# Altium footprint library UVICHyrbidLibrary (1).PcbLib: 116 footprints (part 7 of 8)
Each footprint in its own frame and in the unit in brackets; x right, y up, seen from the top. Pads: shape width x height; smd on the part's side, far side on the other; paste and mask are expansions set on the pad; w line width, h text height; cw(c..) or ccw(c..) is an arc to the next point about the centre after c.
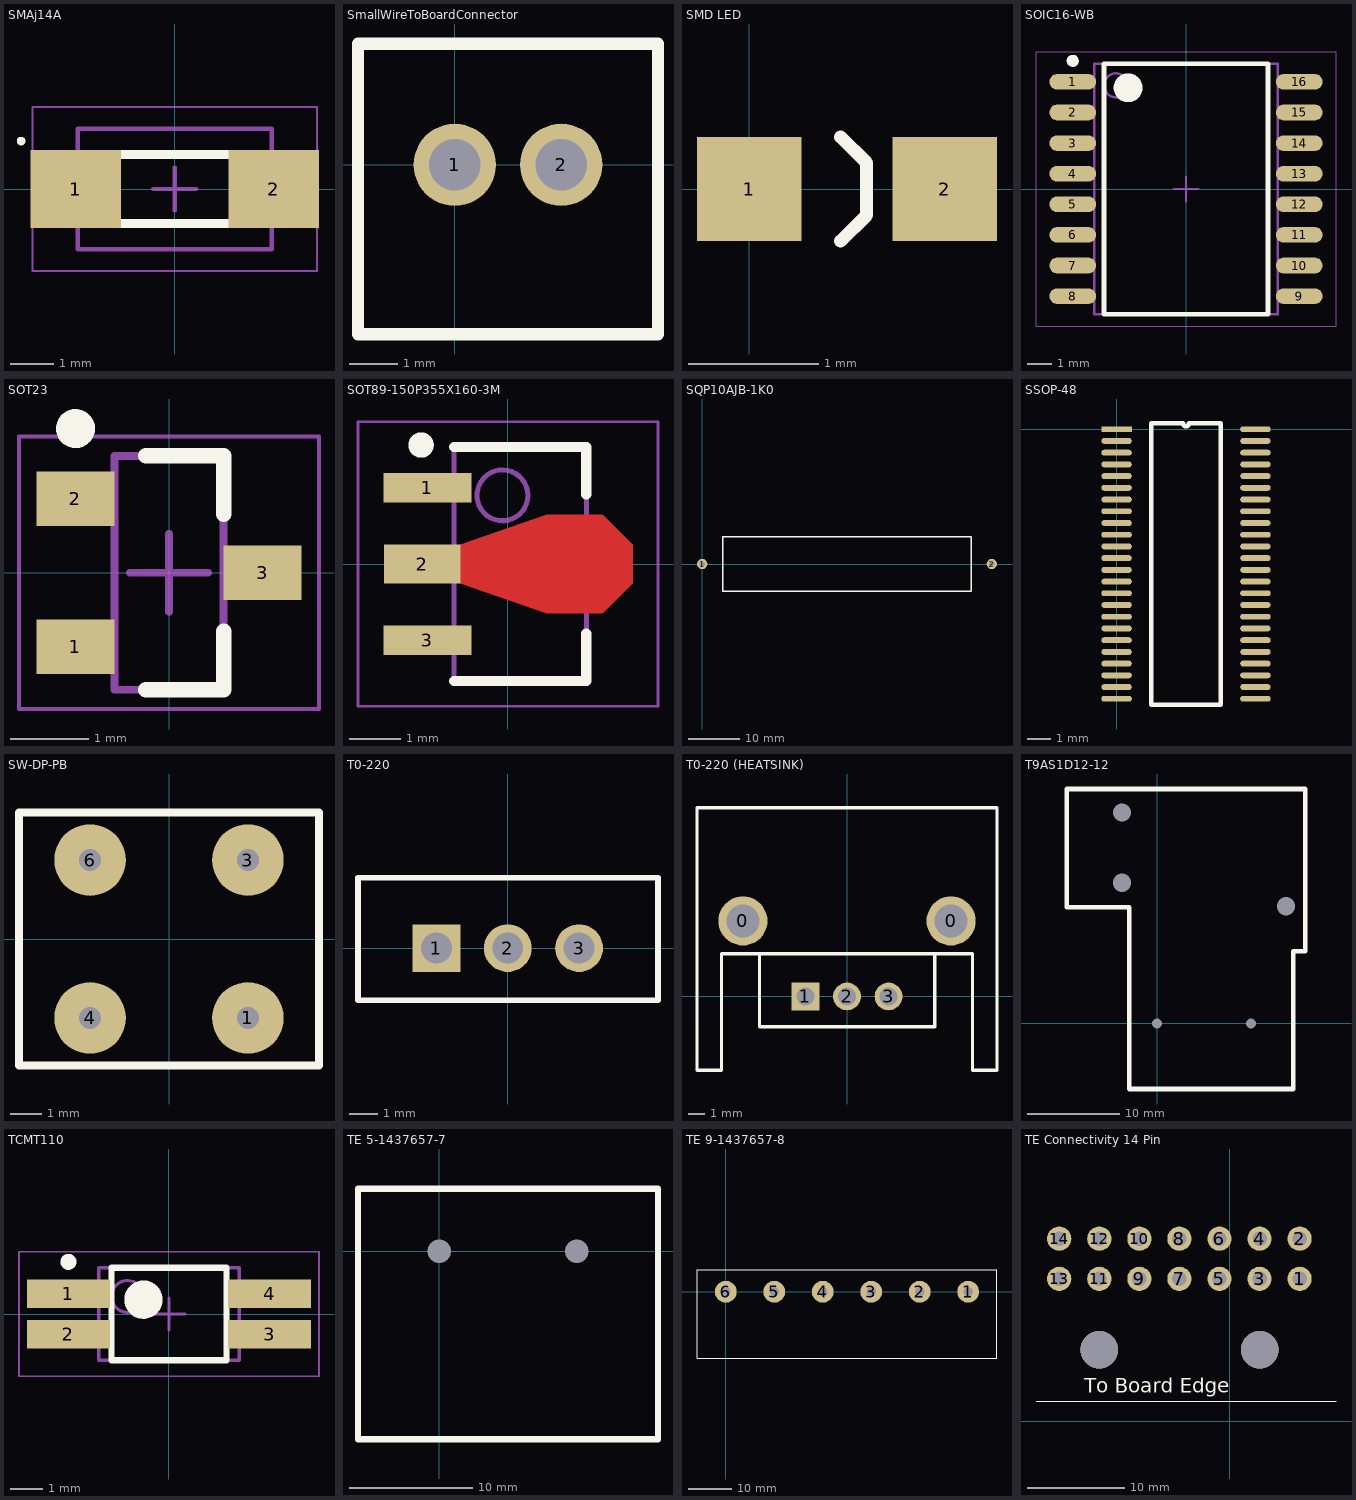
[diagram p6: the footprints below, top view; thin cyan lines are the x and y axes]

## SMAj14A [mm] "Little Fuse TVS Diode"
height 2.29
pads (2):
  rect 2.1x1.8 smd: 1(-2.3,0) 2(2.3,0)
Top Overlay:
  circle w0.1: c-3.562,1.112 r0.05
  lines w0.2: -1.3,-0.8 1.3,-0.8 ; -1.3,0.8 1.3,0.8
Mechanical 13:
  lines w0.1: -2.25,-1.395 2.25,-1.395 2.25,1.395 -2.25,1.395 -2.25,-1.395
Mechanical 15:
  lines w0.05: -3.3,-1.9 3.3,-1.9 3.3,1.9 -3.3,1.9 -3.3,-1.9
  lines w0.1: -0.5,0 0.5,0 ; 0,-0.5 0,0.5
3D body: height 2.29, standoff 0, extent 2.02,-1.395 2.25,1.395
3D body: height 2.29, standoff 0, extent -2.25,-1.395 -2.02,1.395
3D body: height 2.29, standoff 0, extent -2.02,-1.395 2.02,1.395

## SmallWireToBoardConnector [mm] "Extra Parts"
pads (2):
  round 1.7 hole 1.07: 1(0,0) 2(2.2,0)
Top Overlay:
  lines w0.254: -2,-3.5 -2,2.5 4.2,2.5 4.2,-3.5 -2,-3.5

## SMD LED [mm] "LTST LED"
pads (2):
  rect 0.8x0.8 smd: 1(0,0) 2(1.5,0)
Top Overlay:
  lines w0.1: 0.7,-0.4 0.9,-0.2 0.9,0.2 0.7,0.4

## SOIC16-WB [mm] "Wide Body 16 pin SOIC"
height 2.65
pads (16):
  oval 1.95x0.65 smd: 1(-4.7,4.445) 2(-4.7,3.175) 3(-4.7,1.905) 4(-4.7,0.635) 5(-4.7,-0.635) 6(-4.7,-1.905) 7(-4.7,-3.175) 8(-4.7,-4.445) 9(4.7,-4.445) 10(4.7,-3.175) 11(4.7,-1.905) 12(4.7,-0.635) 13(4.7,0.635) 14(4.7,1.905) 15(4.7,3.175) 16(4.7,4.445)
Top Overlay:
  circle w0.25: c-4.7,5.32 r0.125
  circle w0.6: c-2.4,4.2 r0.3
  lines w0.2: -3.4,-5.2 -3.4,5.2 3.4,5.2 3.4,-5.2 -3.4,-5.2
Mechanical 13:
  circle w0.1: c-2.9,4.3 r0.5
  lines w0.1: -3.8,-5.2 -3.8,5.2 3.8,5.2 3.8,-5.2 -3.8,-5.2
Mechanical 15:
  lines w0.05: -6.225,-5.7 -6.225,5.7 6.225,5.7 6.225,-5.7 -6.225,-5.7
  lines w0.1: -0.5,0 0.5,0 ; 0,-0.5 0,0.5
3D body: height 2.65, standoff 0.1, extent -3.8,-5.2 3.8,5.2

## SOT23 [mm] "SOT23, 3-Leads, Body 2.90x2.45mm, Pitch 0.95mm, IPC Medium Density"
height 1.1
pads (3):
  rect 1x0.7 smd: 1(-1.2,-0.95) 2(-1.2,0.95) 3(1.2,0)
Top Overlay:
  circle w0.25: c-1.2,1.85 r0.125
  lines w0.2: -0.3,-1.5 0.7,-1.5 0.7,-0.75 ; -0.3,1.5 0.7,1.5 0.7,0.75
Mechanical 13:
  lines w0.1: -0.7,-1.5 -0.7,1.5 0.7,1.5 0.7,-1.5 -0.7,-1.5
Mechanical 15:
  lines w0.05: -1.925,-1.75 -1.925,1.75 1.925,1.75 1.925,-1.75 -1.925,-1.75
  lines w0.1: -0.5,0 0.5,0 ; 0,-0.5 0,0.5
3D body: height 1.1, standoff 0.05, extent -0.7,-1.5 0.7,1.5

## SOT89-150P355X160-3M [mm] "SOT89, 3-Leads, Body 4.50x2.45mm, Pitch 1.50mm, Lead Span 3.5mm, IPC Low Density"
height 1.6
pads (3):
  rect 1.73x0.58 smd: 1(-1.585,1.5) 3(-1.585,-1.5)
  rect 1.5x0.76 smd: 2(-1.685,0)
Top Layer:
  region: -0.95,0.38 0.75,0.967 1.864,0.967 2.45,0.38 2.45,-0.38 1.864,-0.967 0.75,-0.967 -0.95,-0.38
Top Overlay:
  circle w0.25: c-1.71,2.34 r0.125
  lines w0.2: -1.06,-2.3 1.54,-2.3 1.54,-1.366 ; -1.06,2.3 1.54,2.3 1.54,1.366
Mechanical 13:
  circle w0.1: c-0.11,1.35 r0.5
  lines w0.1: -1.06,-2.3 -1.06,2.3 1.54,2.3 1.54,-2.3 -1.06,-2.3
Mechanical 15:
  lines w0.05: -2.95,-2.8 -2.95,2.8 2.95,2.8 2.95,-2.8 -2.95,-2.8
  lines w0.1: -0.26,0 0.74,0 ; 0.24,-0.5 0.24,0.5
3D body: height 1.6, standoff 0, extent -1.06,-2.3 1.54,2.3

## SQP10AJB-1K0 [mm] "Yageo Through-Hole 10W Resistor"
pads (2):
  round 2 hole 1: 1(0,0) 2(56,0)
Top Overlay:
  lines w0.254: 4,-5.25 4,5.25 52,5.25 52,-5.25 4,-5.25
3D body: height 15.2, standoff 0.1, extent 4,-5.25 52,5.25

## SSOP-48 [mm]
pads (48):
  rect 1.3x0.25 smd: 1(0,0)
  oval 1.3x0.25 smd: 2(0,-0.5) 3(0,-1) 4(0,-1.5) 5(0,-2) 6(0,-2.5) 7(0,-3) 8(0,-3.5) 9(0,-4) 10(0,-4.5) 11(0,-5) 12(0,-5.5) 13(0,-6) 14(0,-6.5) 15(0,-7) 16(0,-7.5) 17(0,-8) 18(0,-8.5) 19(0,-9) 20(0,-9.5) 21(0,-10) 22(0,-10.5) 23(0,-11) 24(0,-11.5) 25(5.925,-11.5) 26(5.925,-11) 27(5.925,-10.5) 28(5.925,-10) 29(5.925,-9.5) 30(5.925,-9) 31(5.925,-8.5) 32(5.925,-8) 33(5.925,-7.5) 34(5.925,-7) 35(5.925,-6.5) 36(5.925,-6) 37(5.925,-5.5) 38(5.925,-5) 39(5.925,-4.5) 40(5.925,-4) 41(5.925,-3.5) 42(5.925,-3) 43(5.925,-2.5) 44(5.925,-2) 45(5.925,-1.5) 46(5.925,-1) 47(5.925,-0.5) 48(5.925,0)
Top Overlay:
  lines w0.2: 1.485,-11.75 1.485,0.25 2.838,0.25 ccw(c2.962,0.25) 3.087,0.25 4.44,0.25 4.44,-11.75 1.485,-11.75

## SW-DP-PB [mm] "Double Pole Push Button for Reset Circuit"
pads (4):
  round 2.3 hole 0.711 square: 1(2.54,-2.54) 3(2.54,2.54) 4(-2.54,-2.54) 6(-2.54,2.54)
Top Overlay:
  lines w0.254: -4.826,-4.064 -4.826,4.064 4.826,4.064 4.826,-4.064 -4.826,-4.064

## T0-220 [mm]
pads (3):
  rect 1.7x1.7 hole 1.1: 1(-2.54,0)
  round 1.7 hole 1.1: 2(0,0) 3(2.54,0)
Top Overlay:
  lines w0.2: -5.334,-1.85 -5.334,2.5 5.35,2.5 5.35,-1.85 -5.334,-1.85

## T0-220 (HEATSINK) [mm] "Ohmite WV-T220-101E Heat Sink"
pads (5):
  round 3 hole 2 unplated: 0(-6.35,4.6)
  round 3 hole 2: 0(6.35,4.6)
  rect 1.7x1.7 hole 1.1: 1(-2.54,0)
  round 1.7 hole 1.1: 2(0,0) 3(2.54,0)
Top Overlay:
  lines w0.2: -5.334,2.5 -5.334,-1.85 5.35,-1.85 5.35,2.5 ; -9.15,-4.5 -9.15,11.5 9.15,11.5 9.15,-4.5 7.65,-4.5 7.65,2.6 -7.65,2.6 -7.65,-4.5 -9.15,-4.5

## T9AS1D12-12 [mm] "TE: 30A, 12VDC, NO, Relay"
pads (5):
  round 0 / inner round 5 / far side round 5 hole 1.98 paste+0.5 mask+0.5: 1(13.97,12.7) 2(-3.81,15.24) 2(-3.81,22.86)
  round 0 / inner round 4 / far side round 4 hole 1.1 paste+0.5 mask+0.5: 3(0,0) 4(10.16,0)
Top Overlay:
  lines w0.5: -9.81,12.6 -3.01,12.6 -3.01,-7.11 14.77,-7.11 14.77,7.8 16.07,7.8 16.07,25.4 -9.81,25.4 -9.81,12.6

## TCMT110 [mm] "Vishay Optocoupler-Single Channel"
height 2.3
pads (4):
  rect 2.6x0.9 smd: 1(-3.15,0.635) 2(-3.15,-0.635) 3(3.15,-0.635) 4(3.15,0.635)
Top Overlay:
  circle w0.25: c-3.15,1.635 r0.125
  circle w0.6: c-0.8,0.45 r0.3
  lines w0.2: -1.8,-1.45 -1.8,1.45 1.8,1.45 1.8,-1.45 -1.8,-1.45
Mechanical 13:
  circle w0.1: c-1.3,0.55 r0.5
  lines w0.1: -2.2,-1.45 -2.2,1.45 2.2,1.45 2.2,-1.45 -2.2,-1.45
Mechanical 15:
  lines w0.05: -4.7,-1.95 -4.7,1.95 4.7,1.95 4.7,-1.95 -4.7,-1.95
  lines w0.1: -0.5,0 0.5,0 ; 0,-0.5 0,0.5
3D body: height 2.3, standoff 0.1, extent -2.2,-1.45 2.2,1.45

## TE 5-1437657-7 [mm] "TE: 2 screw, 30A, connector"
pads (2):
  round 0 / inner round 4 / far side round 7 hole 1.9 paste+0.5 mask+0.5: 1(0,0) 2(11.125,0)
Top Overlay:
  lines w0.5: -6.604,-15.24 17.729,-15.24 17.729,5.08 -6.604,5.08 -6.604,-15.24

## TE 9-1437657-8 [mm] "TE: 6 screw, 30A, connector"
pads (6):
  round 5 hole 2.184: 1(55.625,0) 2(44.5,0) 3(33.375,0) 4(22.25,0) 5(11.125,0) 6(0,0)
Top Overlay:
  lines w0.013: -5.1,5 -5,5.1
  lines w0.25: -6.604,5 -6.604,-15.3 62.23,-15.3 62.23,5.1 -6.604,5.1

## TE Connectivity 14 Pin [mm]
pads (14):
  round 2.5 hole 1.5: 1(7.24,14.7) 2(7.24,18.84) 3(3.1,14.7) 4(3.1,18.84) 5(-1.04,14.7) 6(-1.04,18.84) 7(-5.18,14.7) 8(-5.18,18.84) 9(-9.32,14.7) 10(-9.32,18.84) 11(-13.46,14.7) 12(-13.46,18.84) 13(-17.6,14.7) 14(-17.6,18.84)
via -13.46,7.36 diameter 3.87 hole 3.87
via 3.1,7.36 diameter 3.87 hole 3.87
Top Overlay:
  lines w0.1: -20,2.03 11,2.03
  text "To Board Edge" at -15,2.9 h1.52